# Altium footprint library 水杯V1.1_ZM_202107021.PcbLib: 27 footprints (part 1 of 2)
Each footprint in its own frame and in the unit in brackets; x right, y up, seen from the top. Pads: shape width x height; smd on the part's side, far side on the other; paste and mask are expansions set on the pad; w line width, h text height; cw(c..) or ccw(c..) is an arc to the next point about the centre after c.
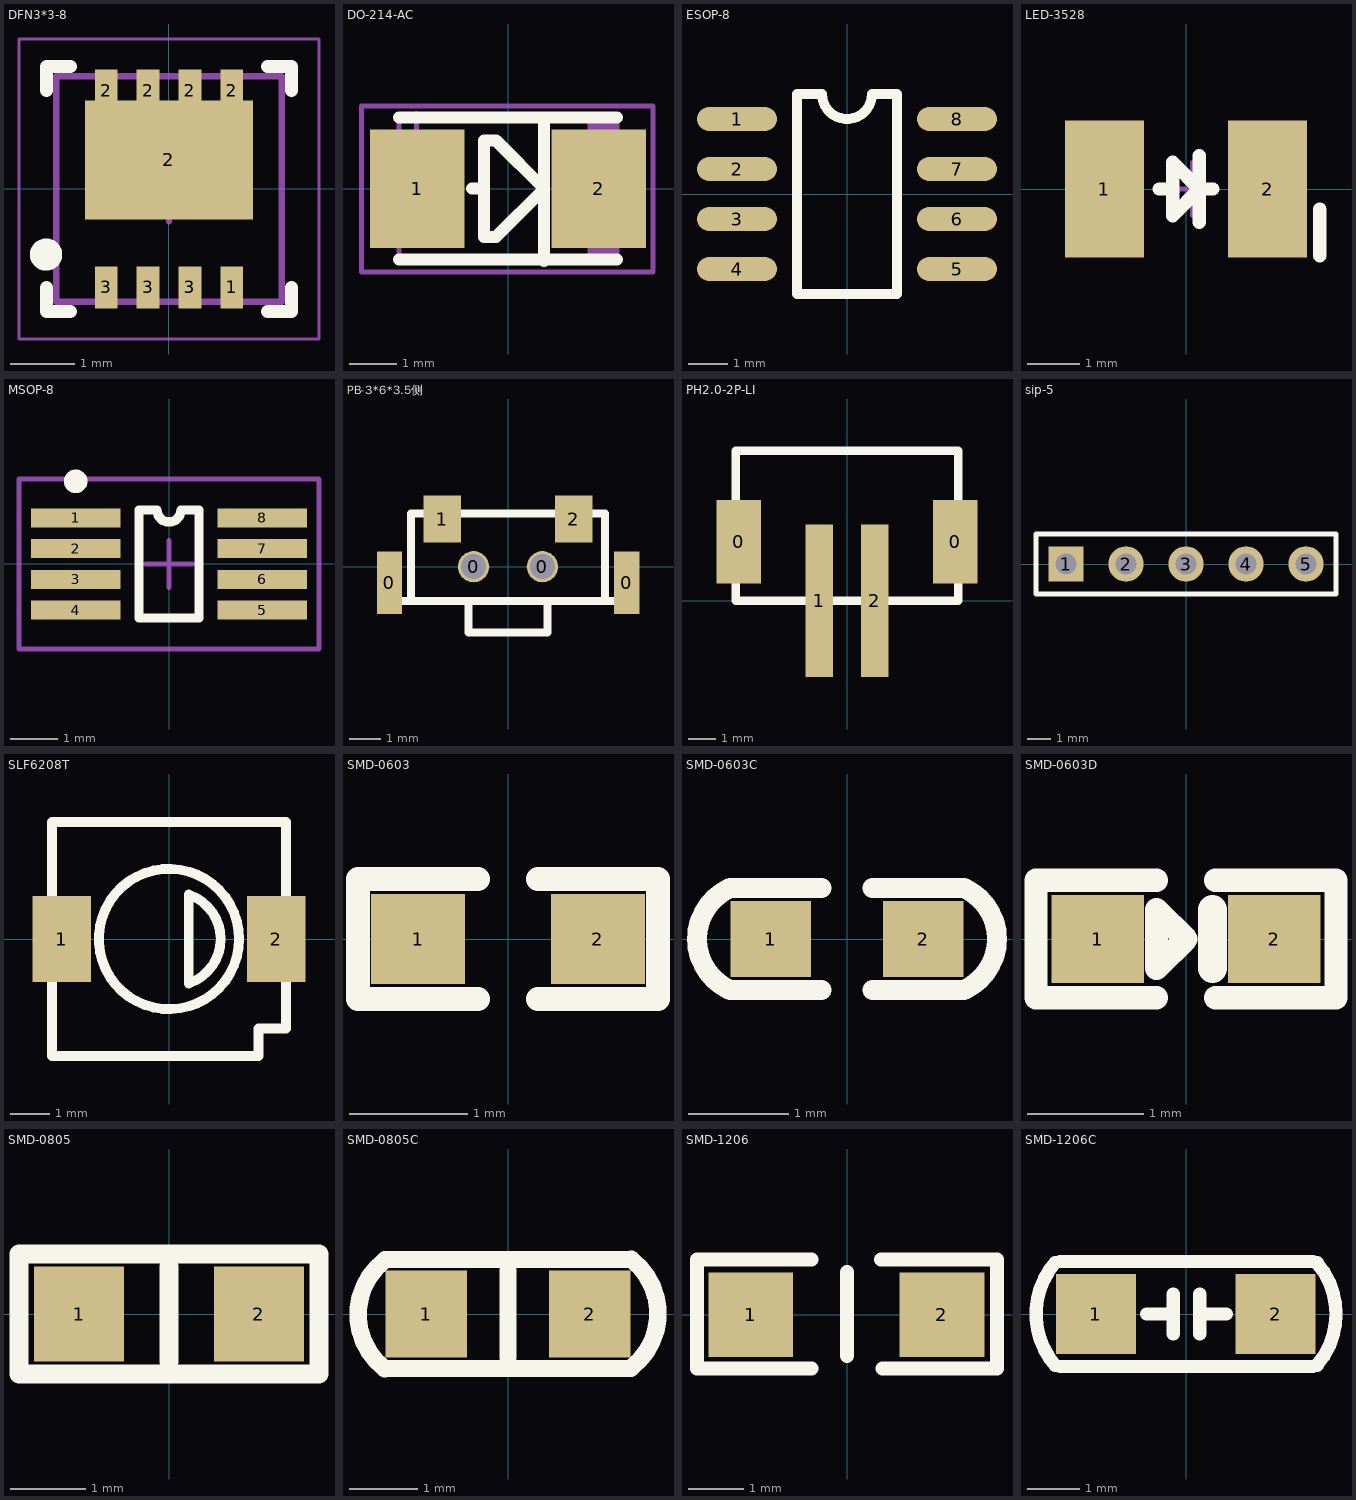
[diagram p0: the footprints below, top view; thin cyan lines are the x and y axes]

## DFN3*3-8 [mm]
pads (9):
  rect 0.35x0.65 smd: 1(0.975,-1.525) 2(-0.975,1.525) 2(-0.325,1.525) 2(0.325,1.525) 2(0.975,1.525) 3(-0.975,-1.525) 3(-0.325,-1.525) 3(0.325,-1.525)
  rect 2.6x1.84 smd: 2(0,0.45)
Top Overlay:
  circle w0.25: c-1.905,-1.016 r0.125
  lines w0.2: -1.9,-1.525 -1.9,-1.9 -1.525,-1.9 ; -1.9,1.525 -1.9,1.9 -1.525,1.9 ; 1.525,-1.9 1.9,-1.9 1.9,-1.525 ; 1.525,1.9 1.9,1.9 1.9,1.525
Mechanical 13:
  lines w0.1: -1.75,-1.75 1.75,-1.75 1.75,1.75 -1.75,1.75 -1.75,-1.75
Mechanical 15:
  lines w0.05: -2.325,-2.325 2.325,-2.325 2.325,2.325 -2.325,2.325 -2.325,-2.325
  lines w0.1: -0.5,0 0.5,0 ; 0,-0.5 0,0.5
3D body: height 0.8, standoff 0.01, extent -1.75,-1.75 1.75,1.75

## DO-214-AC [mm]
pads (2):
  rect 2x2.5 smd: 1(-1.915,0) 2(1.915,0)
Top Overlay:
  lines w0.254: -2.3,-1.5 2.3,-1.5 ; -2.3,1.5 2.3,1.5 ; -0.762,0 -0.508,0 ; 0.762,-1.524 0.762,1.473 ; -0.508,-1.016 -0.254,-1.016 0.762,0 -0.254,1.016 -0.508,1.016 -0.508,-1.016
Mechanical 13:
  rectangle: 1.681,-1.475 2.3,1.475
  lines w0.1: -2.3,-1.475 -2.3,1.475 2.3,1.475 2.3,-1.475 -2.3,-1.475
Mechanical 15:
  lines w0.1: -2.43,1.092 -1.43,1.092 ; -1.93,0.592 -1.93,1.592 ; -3.09,-1.758 3.06,-1.758 3.06,1.742 -3.09,1.742 -3.09,-1.758
3D body "DO-214AC.STEP": height 2.4, standoff 0, extent -2.3,-1.35 2.3,1.35

## ESOP-8 [mil]
pads (8):
  oval 80x24 smd: 1(-110,75) 2(-110,25) 3(-110,-25) 4(-110,-75) 5(110,-75) 6(110,-25) 7(110,25) 8(110,75)
Top Overlay:
  lines w10: -50,-100 -50,100 -25,100 ccw(c0,100) 25,100 50,100 50,-100 -50,-100
3D body "SOIC8.STEP": height 62.99, standoff 0, extent -118.94,-99.02 118.93,98.62

## LED-3528 [mm]
pads (2):
  rect 1.5x2.6 smd: 1(-1.55,0) 2(1.55,0)
Top Overlay:
  lines w0.254: -0.508,0 -0.254,0 ; 0.254,-0.635 0.254,0.635 ; 0.508,0 0.254,0 ; 2.54,-1.27 2.54,-0.381 ; 0.254,0 -0.254,-0.508 -0.254,0.508 0.254,0
Mechanical 15:
  lines w0.1: -0.5,0 0.5,0 ; 0.127,-0.5 0.127,0.5

## MSOP-8 [mm]
pads (8):
  rect 1.9x0.4 smd: 1(-1.975,0.975) 2(-1.975,0.325) 3(-1.975,-0.325) 4(-1.975,-0.975) 5(1.975,-0.975) 6(1.975,-0.325) 7(1.975,0.325) 8(1.975,0.975)
Top Overlay:
  circle w0.25: c-1.975,1.75 r0.125
  lines w0.2: -0.635,-1.143 -0.635,1.143 -0.254,1.143 ccw(c0,1.143) 0.254,1.143 0.635,1.143 0.635,-1.143 -0.635,-1.143
Mechanical 15:
  lines w0.1: -0.5,0 0.5,0 ; 0,-0.5 0,0.5 ; -3.175,-1.8 -3.175,1.8 3.175,1.8 3.175,-1.8 -3.175,-1.8
3D body "MSOP-8.STEP": height 1.15, standoff 0, extent -2.45,-1.5 2.45,1.5

## PB-3*6*3.5侧 [mm]
pads (6):
  rect 0.8x2 smd: 0(-3.8,-0.508) 0(3.8,-0.508)
  round 1 hole 0.8: 0(-1.1,0) 0(1.1,0)
  rect 1.2x1.5 smd: 1(-2.1,1.524) 2(2.1,1.524)
Top Overlay:
  lines w0.254: -3.5,-1.1 3.5,-1.1 ; -3.1,-1.1 -3.1,1.7 3.1,1.7 3.1,-1.1 ; -1.27,-1.1 -1.27,-2.1 1.27,-2.1 1.27,-1.1

## PH2.0-2P-LI [mm]
pads (4):
  rect 1.6x3 smd: 0(-3.9,2.123) 0(3.9,2.123)
  rect 1x5.5 smd: 1(-1,0) 2(1,0)
Top Overlay:
  lines w0.3: -4,0 -4,5.4 4,5.4 4,0 -4,0
3D body "User Library-DS1066-04-2MSV6.STEP": height 6.5, standoff 0, extent -4.063,-1.905 3.937,5.495

## sip-5 [mm]
pads (5):
  rect 1.5x1.5 hole 0.9: 1(-5.08,0)
  round 1.5 hole 0.9: 2(-2.54,0) 3(0,0) 4(2.54,0) 5(5.08,0)
Top Overlay:
  lines w0.2: -6.35,-1.27 -6.35,1.27 6.35,1.27 6.35,-1.27 -6.35,-1.27

## SLF6208T [mm]
pads (2):
  rect 1.5x2.2 smd: 1(-2.75,0) 2(2.75,0)
Top Overlay:
  circle w0.254: c0,0 r1.8
  lines w0.254: 0.508,-1.143 0.508,1.143 ; 0.531,-1.13 ccw(c0.127,0) 0.531,1.13 ; -3,-3 2.3,-3 2.3,-2.3 3,-2.3 3,3 -3,3 -3,-3
3D body "User Library-SLF6028_Series.STEP": height 2.8, standoff 0, extent -3,-2.952 3,3.048

## SMD-0603 [mil]
pads (2):
  rect 31.5x30 smd: 1(-30,0) 2(30,0)
Top Overlay:
  lines w7.87: -10,-20 -50,-20 -50,20 -10,20 ; 10,-20 50,-20 50,20 10,20
3D body "R0603.STEP": height 17.72, standoff 0, extent -31.49,-15.74 31.5,15.76

## SMD-0603C [mil]
pads (2):
  rect 31.5x30 smd: 1(-30,0) 2(30,0)
Top Overlay:
  lines w7.87: -46.3,-19.94 cw(c-37,0) -46.3,19.94 ; -46,-20 -10,-20 ; -46,20 -10,20 ; 10,-20 46,-20 ; 10,20 46,20 ; 46.3,-19.94 ccw(c37,0) 46.3,19.94
3D body "CAPC1608(0603).STEP": height -15.75, standoff -39.37, extent -31.49,-15.74 31.5,15.75

## SMD-0603D [mil]
pads (2):
  rect 31.5x30 smd: 1(-30,0) 2(30,0)
Top Overlay:
  lines w7.87: -51,-20 -51,20 ; -50,-20 -10,-20 ; -50,20 -10,20 ; 10,-20 50,-20 ; 10,20 50,20 ; 51,-20 51,20 ; -10,-10 -10,10 0,0 -10,-10
  lines w10: 9,-10 9,10
3D body "SOD-523.STEP": height 25.59, standoff 0, extent -31.49,-15.74 31.51,15.75

## SMD-0805 [mm]
pads (2):
  rect 1.2x1.27 smd: 1(-1.2,0) 2(1.2,0)
Top Overlay:
  lines w0.254: 0,-0.635 0,0.635 ; -2,-0.8 -2,0.8 2,0.8 2,-0.8 -2,-0.8
3D body "R0805.STEP": height 0.55, standoff 0, extent -1,-0.63 1,0.63

## SMD-0805C [mm]
pads (2):
  rect 1.2x1.27 smd: 1(-1.2,0) 2(1.2,0)
Top Overlay:
  lines w0.254: -1.808,-0.801 cw(c-1.2,-0.007) -1.801,0.792 ; -1.8,-0.8 1.8,-0.8 ; -1.8,0.8 1.8,0.8 ; 0,-0.635 0,0.635 ; 1.801,-0.792 ccw(c1.2,0.007) 1.808,0.801
3D body "Capacitor 0805 SMD.step": height 0.93, standoff -0.01, extent -1.425,-0.667 1.575,0.733

## SMD-1206 [mil]
pads (2):
  rect 60x60 smd: 1(-68,0) 2(67,0)
Top Overlay:
  lines w10: -106,-38 -25,-38 ; -105.98,-36 -105.98,38 ; -106,39 -25,39 ; 0,-29 0,30 ; 24,39 105.98,39 ; 25,-38 106,-38 ; 106,-36 106,38
3D body "R1206.STEP": height 23.62, standoff 0, extent -62.99,-31.49 63,31.5

## SMD-1206C [mil]
pads (2):
  rect 60x60 smd: 1(-68,0) 2(67,0)
Top Overlay:
  lines w10: -98.52,-38.71 cw(c-53.92,0) -98.52,38.71 ; -95,-39.37 95,-39.37 ; -95,39.37 95,39.37 ; -30,0 -10,0 ; -10,-15 -10,15 ; 10,-15 10,15 ; 10,0 30,0 ; 98.12,-38.39 ccw(c53.25,0) 98.12,38.39
3D body "R1206.STEP": height 23.62, standoff 0, extent -62.99,-31.49 63,31.5